# Altium schematic symbol library TP5.SchLib: 2 symbols
Pins are listed as number, name and electrical type; pins without a type are passive.

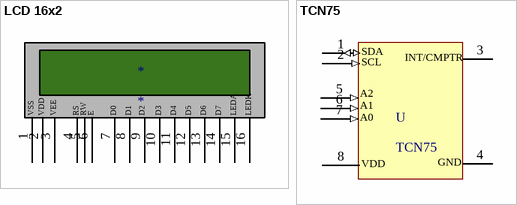
[diagram p0: symbols LCD 16x2 to TCN75]

## LCD 16x2
designator *
pins: 1, 2, 3, 4, 5, 6, 7, 8, 9, 10, 11, 12, 13, 14, 15, 16
text: VSS; VDD; VEE; RS; RW; E; D0; D1; D2; D3; D4; D5; D6; D7; LEDA; LEDK

## TCN75
designator U
pins: 1 (io), 2 (in), 3, 4, 5 (in), 6 (in), 7 (in), 8
text: SDA; SCL; INT/CMPTR; A2; A1; A0; VDD; GND